# EAGLE library part LB1412 (library Wskazniki wysterowania)
zasilanie: 10...16V D1 -20dB D2 -15dB D3 -10dB D4 -7dB D5 -5dB D6 -3dB D7 -1dB D8 0dB D9 +1dB D10 +3dB D11 +5dB D12 +8dB
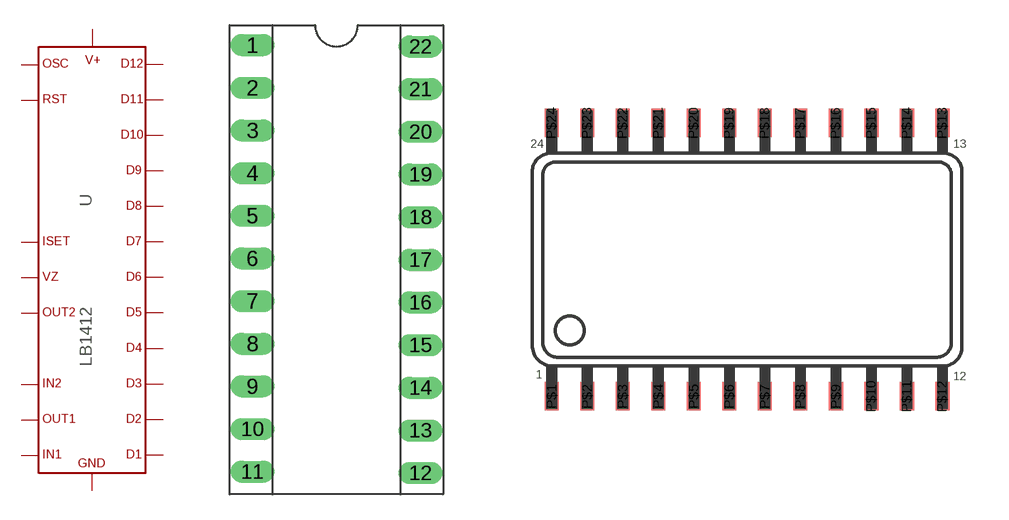
[diagram p0: symbol with the pads of DIL-22_2,54X10; footprints DIL-22_2,54X10, MFP24]

Designator prefix U

## LB1412  [DIL-22_2,54X10]
1  D8
2  D9
3  D10
4  D11
5  D12
6  GND
7  IN1
8  OUT1
9  IN2
10  OUT2
11  RST
12  VZ
13  OSC
14  ISET
15  V+
16  D1
17  D2
18  D3
19  D4
20  D5
21  D6
22  D7

## LB1412M  [MFP24]
P$2  D8
P$3  D9
P$4  D10
P$5  D11
P$6  D12
P$7  GND
P$8  IN1
P$9  OUT1
P$10  IN2
P$11  OUT2
P$12  RST
P$13  VZ
P$14  OSC
P$15  ISET
P$16  V+
P$17  D1
P$18  D2
P$19  D3
P$20  D4
P$21  D5
P$22  D6
P$23  D7

## Footprint DIL-22_2,54X10 (pad centres in mm)
drill 0.813 long: 1 -5,12.78; 2 -5,10.24; 3 -5,7.7; 4 -5,5.16; 5 -5,2.62; 6 -5,0.08; 7 -5,-2.46; 8 -5,-5; 9 -5,-7.54; 10 -5,-10.08; 11 -5,-12.62; 12 5,-12.7; 13 5,-10.16; 14 5,-7.62; 15 5,-5.08; 16 5,-2.54; 17 5,0; 18 5,2.54; 19 5,5.08; 20 5,7.62; 21 5,10.16; 22 5,12.7

## Footprint MFP24 (pad centres in mm)
smd 0.508 x 1.016: P$1 -6.985,-4.889; P$2 -5.715,-4.889; P$3 -4.445,-4.889; P$4 -3.175,-4.889; P$5 -1.905,-4.889; P$6 -0.635,-4.889; P$7 0.635,-4.889; P$8 1.905,-4.889; P$9 3.175,-4.889; P$10 4.445,-4.889; P$11 5.715,-4.889; P$12 6.985,-4.889; P$13 6.985,4.889; P$14 5.715,4.889; P$15 4.445,4.889; P$16 3.175,4.889; P$17 1.905,4.889; P$18 0.635,4.889; P$19 -0.635,4.889; P$20 -1.905,4.889; P$21 -3.175,4.889; P$22 -4.445,4.889; P$23 -5.715,4.889; P$24 -6.985,4.889